# EAGLE library part ADS1015 (library packages(ti))
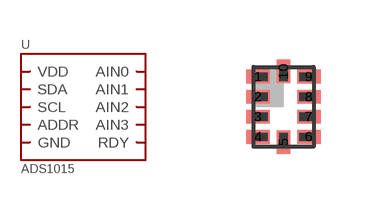
[diagram p22: symbol with the pads of RUG.10; footprint RUG.10]

Designator prefix -

## ADS1015.RUG  [RUG.10]
1  ADDR
2  RDY
3  GND
4  AIN0
5  AIN1
6  AIN2
7  AIN3
8  VDD
9  SDA
10  SCL

## Footprint RUG.10 (pad centres in mm)
smd 0.58 x 0.35: 1 -0.635,0.75; 2 -0.635,0.25; 3 -0.635,-0.25; 4 -0.635,-0.75; 6 0.635,-0.75; 7 0.635,-0.25; 8 0.635,0.25; 9 0.635,0.75
smd 0.35 x 0.58: 5 0,-0.885; 10 0,0.885